# Altium schematic symbol library Maks_lib.SchLib: 13 symbols
Pins are listed as number, name and electrical type; pins without a type are passive.

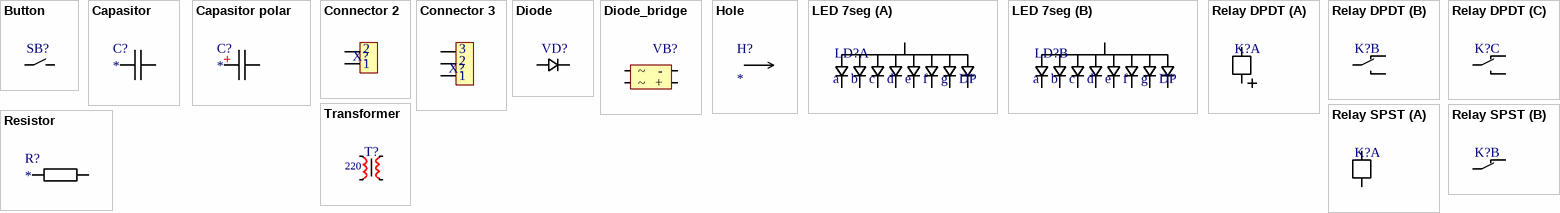
[diagram p0: symbols Button to Transformer]

## Button
designator SB?  (value not drawn)
footprint Button001
pins: 0, 1

## Capasitor
designator C?
Value: *
footprint CAPACITOR 1206
footprint CAPACITOR 0805
footprint CAPACITOR 0603
footprint CAPACITOR 0402
pins: 1, 2

## Capasitor polar
designator C?
Value: *
footprint CAP AL 470/25
footprint CAP AL 470/10
pins: 0, 1

## Connector 2
designator X?  (value not drawn)
footprint CONN 3.5MM 2
footprint Conn 5mm 2
pins: 0 1, 1 2

## Connector 3
designator X?  (value not drawn)
footprint CONN 3.5MM 3
footprint Conn 5mm 3
pins: 0, 1, 2
text: 3

## Diode
designator VD?  (value not drawn)
footprint S3B (3A surface mount diode)
pins: 0, 1

## Diode_bridge
designator VB?  (value not drawn)
footprint MB6S (Diode bridge)
pins: 0 ~, 1 -, 2 +, 3 ~

## Hole
designator H?
footprint Hole 2.5
footprint Hole 3
footprint Hole 1.5
pins: 0

## LED 7seg
designator LD?  (value not drawn)
footprint KPDA02-101
part A pins: 1, 2, 4, 5, 16, 17, 19, 20, D1P V
part B pins: 6, 7, 9, 10, 11, 12, 14, 15, D2P V
part A text: a; b; c; d; e; f; g; DP
part B text: a; b; c; d; e; f; g; DP

## Relay DPDT
designator K?  (value not drawn)
footprint IM06TS
footprint IM23
part A pins: 0, 7
part B pins: 1, 2, 3
part C pins: 4, 5, 6

## Relay SPST
designator K?  (value not drawn)
footprint g2rl-1a-e (SPST relay 16A)
part A pins: 0, 1
part B pins: 2, 3

## Resistor
designator R?
Value: *
footprint Resistor 1206
footprint Resistor 0805
footprint Resistor 0603
footprint Resistor 0402
pins: 1, 2

## Transformer
designator T?  (value not drawn)
footprint TPG1 (Transformer)
pins: 0, 1, 2, 3
text: 220